# EAGLE library part ACSC56 (library Feesta-parts)
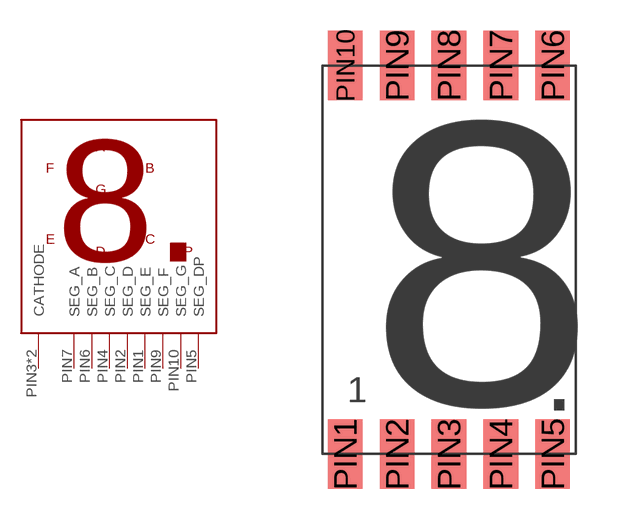
[diagram p0: symbol with the pads of ACSC56; footprint ACSC56]

Designator prefix -

## ACSC56SMT  [ACSC56]
PIN1  SEG_E
PIN2  SEG_D
PIN3  CATHODE
PIN4  SEG_C
PIN5  SEG_DP
PIN6  SEG_B
PIN7  SEG_A
PIN8  CATHODE
PIN9  SEG_F
PIN10  SEG_G

## Footprint ACSC56 (pad centres in mm)
smd 1.7 x 3.4: PIN1 -5.08,-9.525; PIN2 -2.54,-9.525; PIN3 0,-9.525; PIN4 2.54,-9.525; PIN5 5.08,-9.525; PIN6 5.08,9.525; PIN7 2.54,9.525; PIN8 0,9.525; PIN9 -2.54,9.525; PIN10 -5.08,9.525